# Altium footprint library FQFP (0.5mm Pitch, Square) - Corner Index.PcbLib: 47 footprints (part 2 of 4)
Each footprint in its own frame and in the unit in brackets; x right, y up, seen from the top. Pads: shape width x height; smd on the part's side, far side on the other; paste and mask are expansions set on the pad; w line width, h text height; cw(c..) or ccw(c..) is an arc to the next point about the centre after c.
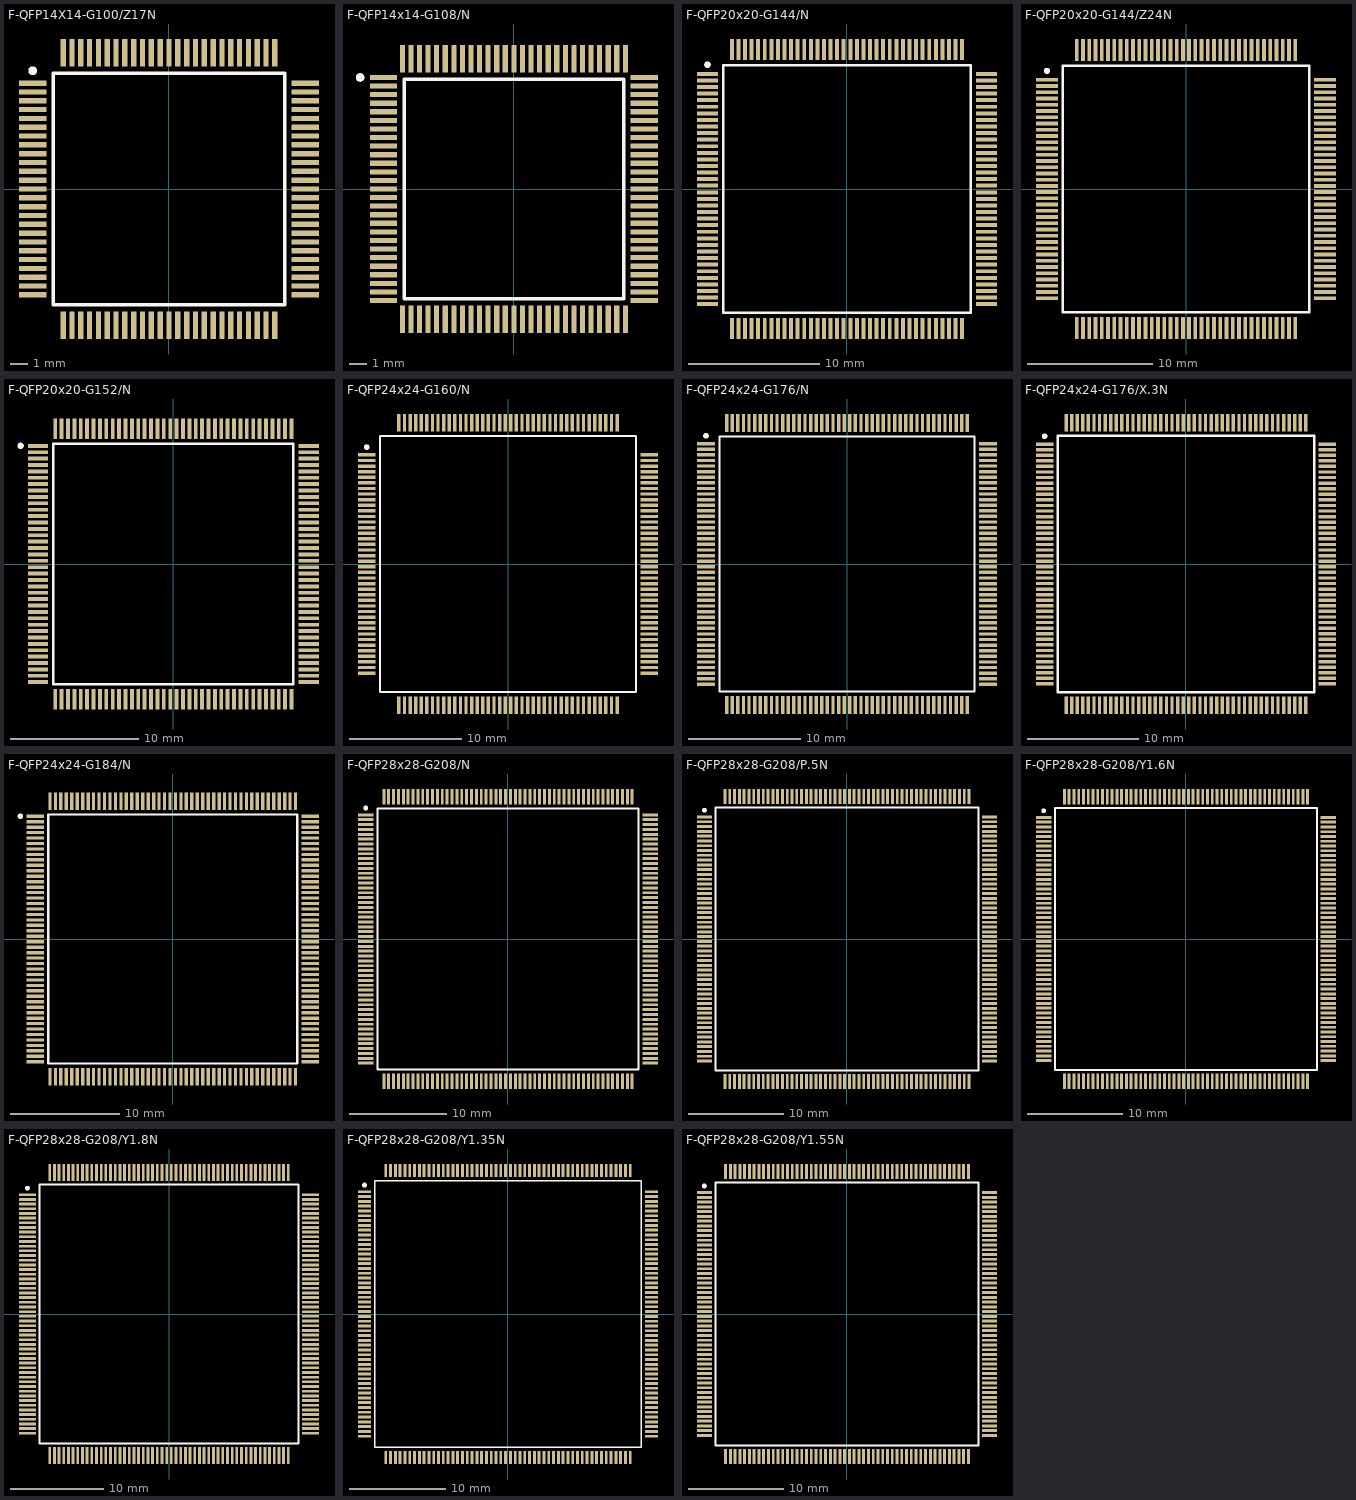
[diagram p1: the footprints below, top view; thin cyan lines are the x and y axes]

## F-QFP14X14-G100/Z17N [mm]
pads (100):
  rect 1.55x0.3 smd: 1(-7.725,6) 2(-7.725,5.5) 3(-7.725,5) 4(-7.725,4.5) 5(-7.725,4) 6(-7.725,3.5) 7(-7.725,3) 8(-7.725,2.5) 9(-7.725,2) 10(-7.725,1.5) 11(-7.725,1) 12(-7.725,0.5) 13(-7.725,0) 14(-7.725,-0.5) 15(-7.725,-1) 16(-7.725,-1.5) 17(-7.725,-2) 18(-7.725,-2.5) 19(-7.725,-3) 20(-7.725,-3.5) 21(-7.725,-4) 22(-7.725,-4.5) 23(-7.725,-5) 24(-7.725,-5.5) 25(-7.725,-6) 51(7.725,-6) 52(7.725,-5.5) 53(7.725,-5) 54(7.725,-4.5) 55(7.725,-4) 56(7.725,-3.5) 57(7.725,-3) 58(7.725,-2.5) 59(7.725,-2) 60(7.725,-1.5) 61(7.725,-1) 62(7.725,-0.5) 63(7.725,0) 64(7.725,0.5) 65(7.725,1) 66(7.725,1.5) 67(7.725,2) 68(7.725,2.5) 69(7.725,3) 70(7.725,3.5) 71(7.725,4) 72(7.725,4.5) 73(7.725,5) 74(7.725,5.5) 75(7.725,6)
  rect 0.3x1.55 smd: 26(-6,-7.725) 27(-5.5,-7.725) 28(-5,-7.725) 29(-4.5,-7.725) 30(-4,-7.725) 31(-3.5,-7.725) 32(-3,-7.725) 33(-2.5,-7.725) 34(-2,-7.725) 35(-1.5,-7.725) 36(-1,-7.725) 37(-0.5,-7.725) 38(0,-7.725) 39(0.5,-7.725) 40(1,-7.725) 41(1.5,-7.725) 42(2,-7.725) 43(2.5,-7.725) 44(3,-7.725) 45(3.5,-7.725) 46(4,-7.725) 47(4.5,-7.725) 48(5,-7.725) 49(5.5,-7.725) 50(6,-7.725) 76(6,7.725) 77(5.5,7.725) 78(5,7.725) 79(4.5,7.725) 80(4,7.725) 81(3.5,7.725) 82(3,7.725) 83(2.5,7.725) 84(2,7.725) 85(1.5,7.725) 86(1,7.725) 87(0.5,7.725) 88(0,7.725) 89(-0.5,7.725) 90(-1,7.725) 91(-1.5,7.725) 92(-2,7.725) 93(-2.5,7.725) 94(-3,7.725) 95(-3.5,7.725) 96(-4,7.725) 97(-4.5,7.725) 98(-5,7.725) 99(-5.5,7.725) 100(-6,7.725)
Top Overlay:
  circle w0.25: c-7.725,6.7 r0.125
  lines w0.2: -6.55,-6.55 6.55,-6.55 6.55,6.55 -6.55,6.55 -6.55,-6.55

## F-QFP14x14-G108/N [mm] "QFP; 108 Leads; Body 14 x 14 mm; Pitch 0.5 mm"
height 2.2
pads (108):
  rect 1.6x0.3 smd: 1(-7.6,6.5) 2(-7.6,6) 3(-7.6,5.5) 4(-7.6,5) 5(-7.6,4.5) 6(-7.6,4) 7(-7.6,3.5) 8(-7.6,3) 9(-7.6,2.5) 10(-7.6,2) 11(-7.6,1.5) 12(-7.6,1) 13(-7.6,0.5) 14(-7.6,0) 15(-7.6,-0.5) 16(-7.6,-1) 17(-7.6,-1.5) 18(-7.6,-2) 19(-7.6,-2.5) 20(-7.6,-3) 21(-7.6,-3.5) 22(-7.6,-4) 23(-7.6,-4.5) 24(-7.6,-5) 25(-7.6,-5.5) 26(-7.6,-6) 27(-7.6,-6.5) 55(7.6,-6.5) 56(7.6,-6) 57(7.6,-5.5) 58(7.6,-5) 59(7.6,-4.5) 60(7.6,-4) 61(7.6,-3.5) 62(7.6,-3) 63(7.6,-2.5) 64(7.6,-2) 65(7.6,-1.5) 66(7.6,-1) 67(7.6,-0.5) 68(7.6,0) 69(7.6,0.5) 70(7.6,1) 71(7.6,1.5) 72(7.6,2) 73(7.6,2.5) 74(7.6,3) 75(7.6,3.5) 76(7.6,4) 77(7.6,4.5) 78(7.6,5) 79(7.6,5.5) 80(7.6,6) 81(7.6,6.5)
  rect 0.3x1.6 smd: 28(-6.5,-7.6) 29(-6,-7.6) 30(-5.5,-7.6) 31(-5,-7.6) 32(-4.5,-7.6) 33(-4,-7.6) 34(-3.5,-7.6) 35(-3,-7.6) 36(-2.5,-7.6) 37(-2,-7.6) 38(-1.5,-7.6) 39(-1,-7.6) 40(-0.5,-7.6) 41(0,-7.6) 42(0.5,-7.6) 43(1,-7.6) 44(1.5,-7.6) 45(2,-7.6) 46(2.5,-7.6) 47(3,-7.6) 48(3.5,-7.6) 49(4,-7.6) 50(4.5,-7.6) 51(5,-7.6) 52(5.5,-7.6) 53(6,-7.6) 54(6.5,-7.6) 82(6.5,7.6) 83(6,7.6) 84(5.5,7.6) 85(5,7.6) 86(4.5,7.6) 87(4,7.6) 88(3.5,7.6) 89(3,7.6) 90(2.5,7.6) 91(2,7.6) 92(1.5,7.6) 93(1,7.6) 94(0.5,7.6) 95(0,7.6) 96(-0.5,7.6) 97(-1,7.6) 98(-1.5,7.6) 99(-2,7.6) 100(-2.5,7.6) 101(-3,7.6) 102(-3.5,7.6) 103(-4,7.6) 104(-4.5,7.6) 105(-5,7.6) 106(-5.5,7.6) 107(-6,7.6) 108(-6.5,7.6)
Top Overlay:
  circle w0.25: c-8.96,6.5 r0.125
  lines w0.2: -6.4,-6.4 -6.4,6.4 6.4,6.4 6.4,-6.4 -6.4,-6.4

## F-QFP20x20-G144/N [mm] "144-Pin Plastic Quad Flat Pack (TQFP)"
height 1.6
pads (144):
  rect 1.6x0.3 smd: 1(-10.6,8.75) 2(-10.6,8.25) 3(-10.6,7.75) 4(-10.6,7.25) 5(-10.6,6.75) 6(-10.6,6.25) 7(-10.6,5.75) 8(-10.6,5.25) 9(-10.6,4.75) 10(-10.6,4.25) 11(-10.6,3.75) 12(-10.6,3.25) 13(-10.6,2.75) 14(-10.6,2.25) 15(-10.6,1.75) 16(-10.6,1.25) 17(-10.6,0.75) 18(-10.6,0.25) 19(-10.6,-0.25) 20(-10.6,-0.75) 21(-10.6,-1.25) 22(-10.6,-1.75) 23(-10.6,-2.25) 24(-10.6,-2.75) 25(-10.6,-3.25) 26(-10.6,-3.75) 27(-10.6,-4.25) 28(-10.6,-4.75) 29(-10.6,-5.25) 30(-10.6,-5.75) 31(-10.6,-6.25) 32(-10.6,-6.75) 33(-10.6,-7.25) 34(-10.6,-7.75) 35(-10.6,-8.25) 36(-10.6,-8.75) 73(10.6,-8.75) 74(10.6,-8.25) 75(10.6,-7.75) 76(10.6,-7.25) 77(10.6,-6.75) 78(10.6,-6.25) 79(10.6,-5.75) 80(10.6,-5.25) 81(10.6,-4.75) 82(10.6,-4.25) 83(10.6,-3.75) 84(10.6,-3.25) 85(10.6,-2.75) 86(10.6,-2.25) 87(10.6,-1.75) 88(10.6,-1.25) 89(10.6,-0.75) 90(10.6,-0.25) 91(10.6,0.25) 92(10.6,0.75) 93(10.6,1.25) 94(10.6,1.75) 95(10.6,2.25) 96(10.6,2.75) 97(10.6,3.25) 98(10.6,3.75) 99(10.6,4.25) 100(10.6,4.75) 101(10.6,5.25) 102(10.6,5.75) 103(10.6,6.25) 104(10.6,6.75) 105(10.6,7.25) 106(10.6,7.75) 107(10.6,8.25) 108(10.6,8.75)
  rect 0.3x1.6 smd: 37(-8.75,-10.6) 38(-8.25,-10.6) 39(-7.75,-10.6) 40(-7.25,-10.6) 41(-6.75,-10.6) 42(-6.25,-10.6) 43(-5.75,-10.6) 44(-5.25,-10.6) 45(-4.75,-10.6) 46(-4.25,-10.6) 47(-3.75,-10.6) 48(-3.25,-10.6) 49(-2.75,-10.6) 50(-2.25,-10.6) 51(-1.75,-10.6) 52(-1.25,-10.6) 53(-0.75,-10.6) 54(-0.25,-10.6) 55(0.25,-10.6) 56(0.75,-10.6) 57(1.25,-10.6) 58(1.75,-10.6) 59(2.25,-10.6) 60(2.75,-10.6) 61(3.25,-10.6) 62(3.75,-10.6) 63(4.25,-10.6) 64(4.75,-10.6) 65(5.25,-10.6) 66(5.75,-10.6) 67(6.25,-10.6) 68(6.75,-10.6) 69(7.25,-10.6) 70(7.75,-10.6) 71(8.25,-10.6) 72(8.75,-10.6) 109(8.75,10.6) 110(8.25,10.6) 111(7.75,10.6) 112(7.25,10.6) 113(6.75,10.6) 114(6.25,10.6) 115(5.75,10.6) 116(5.25,10.6) 117(4.75,10.6) 118(4.25,10.6) 119(3.75,10.6) 120(3.25,10.6) 121(2.75,10.6) 122(2.25,10.6) 123(1.75,10.6) 124(1.25,10.6) 125(0.75,10.6) 126(0.25,10.6) 127(-0.25,10.6) 128(-0.75,10.6) 129(-1.25,10.6) 130(-1.75,10.6) 131(-2.25,10.6) 132(-2.75,10.6) 133(-3.25,10.6) 134(-3.75,10.6) 135(-4.25,10.6) 136(-4.75,10.6) 137(-5.25,10.6) 138(-5.75,10.6) 139(-6.25,10.6) 140(-6.75,10.6) 141(-7.25,10.6) 142(-7.75,10.6) 143(-8.25,10.6) 144(-8.75,10.6)
Top Overlay:
  circle w0.25: c-10.6,9.45 r0.125
  lines w0.2: -9.4,-9.4 -9.4,9.4 9.4,9.4 9.4,-9.4 -9.4,-9.4

## F-QFP20x20-G144/Z24N [mm] "QFP; 144 Leads; Body 20 x 20 mm; Pitch 0.5 mm"
height 3
pads (144):
  rect 1.75x0.3 smd: 1(-11.125,8.75) 2(-11.125,8.25) 3(-11.125,7.75) 4(-11.125,7.25) 5(-11.125,6.75) 6(-11.125,6.25) 7(-11.125,5.75) 8(-11.125,5.25) 9(-11.125,4.75) 10(-11.125,4.25) 11(-11.125,3.75) 12(-11.125,3.25) 13(-11.125,2.75) 14(-11.125,2.25) 15(-11.125,1.75) 16(-11.125,1.25) 17(-11.125,0.75) 18(-11.125,0.25) 19(-11.125,-0.25) 20(-11.125,-0.75) 21(-11.125,-1.25) 22(-11.125,-1.75) 23(-11.125,-2.25) 24(-11.125,-2.75) 25(-11.125,-3.25) 26(-11.125,-3.75) 27(-11.125,-4.25) 28(-11.125,-4.75) 29(-11.125,-5.25) 30(-11.125,-5.75) 31(-11.125,-6.25) 32(-11.125,-6.75) 33(-11.125,-7.25) 34(-11.125,-7.75) 35(-11.125,-8.25) 36(-11.125,-8.75) 73(11.125,-8.75) 74(11.125,-8.25) 75(11.125,-7.75) 76(11.125,-7.25) 77(11.125,-6.75) 78(11.125,-6.25) 79(11.125,-5.75) 80(11.125,-5.25) 81(11.125,-4.75) 82(11.125,-4.25) 83(11.125,-3.75) 84(11.125,-3.25) 85(11.125,-2.75) 86(11.125,-2.25) 87(11.125,-1.75) 88(11.125,-1.25) 89(11.125,-0.75) 90(11.125,-0.25) 91(11.125,0.25) 92(11.125,0.75) 93(11.125,1.25) 94(11.125,1.75) 95(11.125,2.25) 96(11.125,2.75) 97(11.125,3.25) 98(11.125,3.75) 99(11.125,4.25) 100(11.125,4.75) 101(11.125,5.25) 102(11.125,5.75) 103(11.125,6.25) 104(11.125,6.75) 105(11.125,7.25) 106(11.125,7.75) 107(11.125,8.25) 108(11.125,8.75)
  rect 0.3x1.75 smd: 37(-8.75,-11.125) 38(-8.25,-11.125) 39(-7.75,-11.125) 40(-7.25,-11.125) 41(-6.75,-11.125) 42(-6.25,-11.125) 43(-5.75,-11.125) 44(-5.25,-11.125) 45(-4.75,-11.125) 46(-4.25,-11.125) 47(-3.75,-11.125) 48(-3.25,-11.125) 49(-2.75,-11.125) 50(-2.25,-11.125) 51(-1.75,-11.125) 52(-1.25,-11.125) 53(-0.75,-11.125) 54(-0.25,-11.125) 55(0.25,-11.125) 56(0.75,-11.125) 57(1.25,-11.125) 58(1.75,-11.125) 59(2.25,-11.125) 60(2.75,-11.125) 61(3.25,-11.125) 62(3.75,-11.125) 63(4.25,-11.125) 64(4.75,-11.125) 65(5.25,-11.125) 66(5.75,-11.125) 67(6.25,-11.125) 68(6.75,-11.125) 69(7.25,-11.125) 70(7.75,-11.125) 71(8.25,-11.125) 72(8.75,-11.125) 109(8.75,11.125) 110(8.25,11.125) 111(7.75,11.125) 112(7.25,11.125) 113(6.75,11.125) 114(6.25,11.125) 115(5.75,11.125) 116(5.25,11.125) 117(4.75,11.125) 118(4.25,11.125) 119(3.75,11.125) 120(3.25,11.125) 121(2.75,11.125) 122(2.25,11.125) 123(1.75,11.125) 124(1.25,11.125) 125(0.75,11.125) 126(0.25,11.125) 127(-0.25,11.125) 128(-0.75,11.125) 129(-1.25,11.125) 130(-1.75,11.125) 131(-2.25,11.125) 132(-2.75,11.125) 133(-3.25,11.125) 134(-3.75,11.125) 135(-4.25,11.125) 136(-4.75,11.125) 137(-5.25,11.125) 138(-5.75,11.125) 139(-6.25,11.125) 140(-6.75,11.125) 141(-7.25,11.125) 142(-7.75,11.125) 143(-8.25,11.125) 144(-8.75,11.125)
Top Overlay:
  circle w0.25: c-11.13,9.45 r0.125
  lines w0.2: -9.85,-9.85 9.85,-9.85 9.85,9.85 -9.85,9.85 -9.85,-9.85

## F-QFP20x20-G152/N [mm] "QFP; 152 Leads; Body 20 x 20 mm; Pitch 0.5 mm"
height 2.7
pads (152):
  rect 1.6x0.3 smd: 1(-10.6,9.25) 2(-10.6,8.75) 3(-10.6,8.25) 4(-10.6,7.75) 5(-10.6,7.25) 6(-10.6,6.75) 7(-10.6,6.25) 8(-10.6,5.75) 9(-10.6,5.25) 10(-10.6,4.75) 11(-10.6,4.25) 12(-10.6,3.75) 13(-10.6,3.25) 14(-10.6,2.75) 15(-10.6,2.25) 16(-10.6,1.75) 17(-10.6,1.25) 18(-10.6,0.75) 19(-10.6,0.25) 20(-10.6,-0.25) 21(-10.6,-0.75) 22(-10.6,-1.25) 23(-10.6,-1.75) 24(-10.6,-2.25) 25(-10.6,-2.75) 26(-10.6,-3.25) 27(-10.6,-3.75) 28(-10.6,-4.25) 29(-10.6,-4.75) 30(-10.6,-5.25) 31(-10.6,-5.75) 32(-10.6,-6.25) 33(-10.6,-6.75) 34(-10.6,-7.25) 35(-10.6,-7.75) 36(-10.6,-8.25) 37(-10.6,-8.75) 38(-10.6,-9.25) 77(10.6,-9.25) 78(10.6,-8.75) 79(10.6,-8.25) 80(10.6,-7.75) 81(10.6,-7.25) 82(10.6,-6.75) 83(10.6,-6.25) 84(10.6,-5.75) 85(10.6,-5.25) 86(10.6,-4.75) 87(10.6,-4.25) 88(10.6,-3.75) 89(10.6,-3.25) 90(10.6,-2.75) 91(10.6,-2.25) 92(10.6,-1.75) 93(10.6,-1.25) 94(10.6,-0.75) 95(10.6,-0.25) 96(10.6,0.25) 97(10.6,0.75) 98(10.6,1.25) 99(10.6,1.75) 100(10.6,2.25) 101(10.6,2.75) 102(10.6,3.25) 103(10.6,3.75) 104(10.6,4.25) 105(10.6,4.75) 106(10.6,5.25) 107(10.6,5.75) 108(10.6,6.25) 109(10.6,6.75) 110(10.6,7.25) 111(10.6,7.75) 112(10.6,8.25) 113(10.6,8.75) 114(10.6,9.25)
  rect 0.3x1.6 smd: 39(-9.25,-10.6) 40(-8.75,-10.6) 41(-8.25,-10.6) 42(-7.75,-10.6) 43(-7.25,-10.6) 44(-6.75,-10.6) 45(-6.25,-10.6) 46(-5.75,-10.6) 47(-5.25,-10.6) 48(-4.75,-10.6) 49(-4.25,-10.6) 50(-3.75,-10.6) 51(-3.25,-10.6) 52(-2.75,-10.6) 53(-2.25,-10.6) 54(-1.75,-10.6) 55(-1.25,-10.6) 56(-0.75,-10.6) 57(-0.25,-10.6) 58(0.25,-10.6) 59(0.75,-10.6) 60(1.25,-10.6) 61(1.75,-10.6) 62(2.25,-10.6) 63(2.75,-10.6) 64(3.25,-10.6) 65(3.75,-10.6) 66(4.25,-10.6) 67(4.75,-10.6) 68(5.25,-10.6) 69(5.75,-10.6) 70(6.25,-10.6) 71(6.75,-10.6) 72(7.25,-10.6) 73(7.75,-10.6) 74(8.25,-10.6) 75(8.75,-10.6) 76(9.25,-10.6) 115(9.25,10.6) 116(8.75,10.6) 117(8.25,10.6) 118(7.75,10.6) 119(7.25,10.6) 120(6.75,10.6) 121(6.25,10.6) 122(5.75,10.6) 123(5.25,10.6) 124(4.75,10.6) 125(4.25,10.6) 126(3.75,10.6) 127(3.25,10.6) 128(2.75,10.6) 129(2.25,10.6) 130(1.75,10.6) 131(1.25,10.6) 132(0.75,10.6) 133(0.25,10.6) 134(-0.25,10.6) 135(-0.75,10.6) 136(-1.25,10.6) 137(-1.75,10.6) 138(-2.25,10.6) 139(-2.75,10.6) 140(-3.25,10.6) 141(-3.75,10.6) 142(-4.25,10.6) 143(-4.75,10.6) 144(-5.25,10.6) 145(-5.75,10.6) 146(-6.25,10.6) 147(-6.75,10.6) 148(-7.25,10.6) 149(-7.75,10.6) 150(-8.25,10.6) 151(-8.75,10.6) 152(-9.25,10.6)
Top Overlay:
  circle w0.25: c-11.96,9.25 r0.125
  lines w0.2: -9.4,-9.4 9.4,-9.4 9.4,9.4 -9.4,9.4 -9.4,-9.4

## F-QFP24x24-G160/N [mm] "QFP; 160 Leads; Body 24 x 24 mm; Pitch 0.5 mm"
height 1.6
pads (160):
  rect 1.55x0.3 smd: 1(-12.63,9.75) 2(-12.63,9.25) 3(-12.63,8.75) 4(-12.63,8.25) 5(-12.63,7.75) 6(-12.63,7.25) 7(-12.63,6.75) 8(-12.63,6.25) 9(-12.63,5.75) 10(-12.63,5.25) 11(-12.63,4.75) 12(-12.63,4.25) 13(-12.63,3.75) 14(-12.63,3.25) 15(-12.63,2.75) 16(-12.63,2.25) 17(-12.63,1.75) 18(-12.63,1.25) 19(-12.63,0.75) 20(-12.63,0.25) 21(-12.63,-0.25) 22(-12.63,-0.75) 23(-12.63,-1.25) 24(-12.63,-1.75) 25(-12.63,-2.25) 26(-12.63,-2.75) 27(-12.63,-3.25) 28(-12.63,-3.75) 29(-12.63,-4.25) 30(-12.63,-4.75) 31(-12.63,-5.25) 32(-12.63,-5.75) 33(-12.63,-6.25) 34(-12.63,-6.75) 35(-12.63,-7.25) 36(-12.63,-7.75) 37(-12.63,-8.25) 38(-12.63,-8.75) 39(-12.63,-9.25) 40(-12.63,-9.75) 81(12.63,-9.75) 82(12.63,-9.25) 83(12.63,-8.75) 84(12.63,-8.25) 85(12.63,-7.75) 86(12.63,-7.25) 87(12.63,-6.75) 88(12.63,-6.25) 89(12.63,-5.75) 90(12.63,-5.25) 91(12.63,-4.75) 92(12.63,-4.25) 93(12.63,-3.75) 94(12.63,-3.25) 95(12.63,-2.75) 96(12.63,-2.25) 97(12.63,-1.75) 98(12.63,-1.25) 99(12.63,-0.75) 100(12.63,-0.25) 101(12.63,0.25) 102(12.63,0.75) 103(12.63,1.25) 104(12.63,1.75) 105(12.63,2.25) 106(12.63,2.75) 107(12.63,3.25) 108(12.63,3.75) 109(12.63,4.25) 110(12.63,4.75) 111(12.63,5.25) 112(12.63,5.75) 113(12.63,6.25) 114(12.63,6.75) 115(12.63,7.25) 116(12.63,7.75) 117(12.63,8.25) 118(12.63,8.75) 119(12.63,9.25) 120(12.63,9.75)
  rect 0.3x1.55 smd: 41(-9.75,-12.63) 42(-9.25,-12.63) 43(-8.75,-12.63) 44(-8.25,-12.63) 45(-7.75,-12.63) 46(-7.25,-12.63) 47(-6.75,-12.63) 48(-6.25,-12.63) 49(-5.75,-12.63) 50(-5.25,-12.63) 51(-4.75,-12.63) 52(-4.25,-12.63) 53(-3.75,-12.63) 54(-3.25,-12.63) 55(-2.75,-12.63) 56(-2.25,-12.63) 57(-1.75,-12.63) 58(-1.25,-12.63) 59(-0.75,-12.63) 60(-0.25,-12.63) 61(0.25,-12.63) 62(0.75,-12.63) 63(1.25,-12.63) 64(1.75,-12.63) 65(2.25,-12.63) 66(2.75,-12.63) 67(3.25,-12.63) 68(3.75,-12.63) 69(4.25,-12.63) 70(4.75,-12.63) 71(5.25,-12.63) 72(5.75,-12.63) 73(6.25,-12.63) 74(6.75,-12.63) 75(7.25,-12.63) 76(7.75,-12.63) 77(8.25,-12.63) 78(8.75,-12.63) 79(9.25,-12.63) 80(9.75,-12.63) 121(9.75,12.63) 122(9.25,12.63) 123(8.75,12.63) 124(8.25,12.63) 125(7.75,12.63) 126(7.25,12.63) 127(6.75,12.63) 128(6.25,12.63) 129(5.75,12.63) 130(5.25,12.63) 131(4.75,12.63) 132(4.25,12.63) 133(3.75,12.63) 134(3.25,12.63) 135(2.75,12.63) 136(2.25,12.63) 137(1.75,12.63) 138(1.25,12.63) 139(0.75,12.63) 140(0.25,12.63) 141(-0.25,12.63) 142(-0.75,12.63) 143(-1.25,12.63) 144(-1.75,12.63) 145(-2.25,12.63) 146(-2.75,12.63) 147(-3.25,12.63) 148(-3.75,12.63) 149(-4.25,12.63) 150(-4.75,12.63) 151(-5.25,12.63) 152(-5.75,12.63) 153(-6.25,12.63) 154(-6.75,12.63) 155(-7.25,12.63) 156(-7.75,12.63) 157(-8.25,12.63) 158(-8.75,12.63) 159(-9.25,12.63) 160(-9.75,12.63)
Top Overlay:
  circle w0.25: c-12.63,10.45 r0.125
  lines w0.2: -11.45,-11.45 -11.45,11.45 11.45,11.45 11.45,-11.45 -11.45,-11.45

## F-QFP24x24-G176/N [mm] "176-Pin Plastic Quad Flat Pack (TQFP)"
height 1.6
pads (176):
  rect 1.6x0.3 smd: 1(-12.6,10.75) 2(-12.6,10.25) 3(-12.6,9.75) 4(-12.6,9.25) 5(-12.6,8.75) 6(-12.6,8.25) 7(-12.6,7.75) 8(-12.6,7.25) 9(-12.6,6.75) 10(-12.6,6.25) 11(-12.6,5.75) 12(-12.6,5.25) 13(-12.6,4.75) 14(-12.6,4.25) 15(-12.6,3.75) 16(-12.6,3.25) 17(-12.6,2.75) 18(-12.6,2.25) 19(-12.6,1.75) 20(-12.6,1.25) 21(-12.6,0.75) 22(-12.6,0.25) 23(-12.6,-0.25) 24(-12.6,-0.75) 25(-12.6,-1.25) 26(-12.6,-1.75) 27(-12.6,-2.25) 28(-12.6,-2.75) 29(-12.6,-3.25) 30(-12.6,-3.75) 31(-12.6,-4.25) 32(-12.6,-4.75) 33(-12.6,-5.25) 34(-12.6,-5.75) 35(-12.6,-6.25) 36(-12.6,-6.75) 37(-12.6,-7.25) 38(-12.6,-7.75) 39(-12.6,-8.25) 40(-12.6,-8.75) 41(-12.6,-9.25) 42(-12.6,-9.75) 43(-12.6,-10.25) 44(-12.6,-10.75) 89(12.6,-10.75) 90(12.6,-10.25) 91(12.6,-9.75) 92(12.6,-9.25) 93(12.6,-8.75) 94(12.6,-8.25) 95(12.6,-7.75) 96(12.6,-7.25) 97(12.6,-6.75) 98(12.6,-6.25) 99(12.6,-5.75) 100(12.6,-5.25) 101(12.6,-4.75) 102(12.6,-4.25) 103(12.6,-3.75) 104(12.6,-3.25) 105(12.6,-2.75) 106(12.6,-2.25) 107(12.6,-1.75) 108(12.6,-1.25) 109(12.6,-0.75) 110(12.6,-0.25) 111(12.6,0.25) 112(12.6,0.75) 113(12.6,1.25) 114(12.6,1.75) 115(12.6,2.25) 116(12.6,2.75) 117(12.6,3.25) 118(12.6,3.75) 119(12.6,4.25) 120(12.6,4.75) 121(12.6,5.25) 122(12.6,5.75) 123(12.6,6.25) 124(12.6,6.75) 125(12.6,7.25) 126(12.6,7.75) 127(12.6,8.25) 128(12.6,8.75) 129(12.6,9.25) 130(12.6,9.75) 131(12.6,10.25) 132(12.6,10.75)
  rect 0.3x1.6 smd: 45(-10.75,-12.6) 46(-10.25,-12.6) 47(-9.75,-12.6) 48(-9.25,-12.6) 49(-8.75,-12.6) 50(-8.25,-12.6) 51(-7.75,-12.6) 52(-7.25,-12.6) 53(-6.75,-12.6) 54(-6.25,-12.6) 55(-5.75,-12.6) 56(-5.25,-12.6) 57(-4.75,-12.6) 58(-4.25,-12.6) 59(-3.75,-12.6) 60(-3.25,-12.6) 61(-2.75,-12.6) 62(-2.25,-12.6) 63(-1.75,-12.6) 64(-1.25,-12.6) 65(-0.75,-12.6) 66(-0.25,-12.6) 67(0.25,-12.6) 68(0.75,-12.6) 69(1.25,-12.6) 70(1.75,-12.6) 71(2.25,-12.6) 72(2.75,-12.6) 73(3.25,-12.6) 74(3.75,-12.6) 75(4.25,-12.6) 76(4.75,-12.6) 77(5.25,-12.6) 78(5.75,-12.6) 79(6.25,-12.6) 80(6.75,-12.6) 81(7.25,-12.6) 82(7.75,-12.6) 83(8.25,-12.6) 84(8.75,-12.6) 85(9.25,-12.6) 86(9.75,-12.6) 87(10.25,-12.6) 88(10.75,-12.6) 133(10.75,12.6) 134(10.25,12.6) 135(9.75,12.6) 136(9.25,12.6) 137(8.75,12.6) 138(8.25,12.6) 139(7.75,12.6) 140(7.25,12.6) 141(6.75,12.6) 142(6.25,12.6) 143(5.75,12.6) 144(5.25,12.6) 145(4.75,12.6) 146(4.25,12.6) 147(3.75,12.6) 148(3.25,12.6) 149(2.75,12.6) 150(2.25,12.6) 151(1.75,12.6) 152(1.25,12.6) 153(0.75,12.6) 154(0.25,12.6) 155(-0.25,12.6) 156(-0.75,12.6) 157(-1.25,12.6) 158(-1.75,12.6) 159(-2.25,12.6) 160(-2.75,12.6) 161(-3.25,12.6) 162(-3.75,12.6) 163(-4.25,12.6) 164(-4.75,12.6) 165(-5.25,12.6) 166(-5.75,12.6) 167(-6.25,12.6) 168(-6.75,12.6) 169(-7.25,12.6) 170(-7.75,12.6) 171(-8.25,12.6) 172(-8.75,12.6) 173(-9.25,12.6) 174(-9.75,12.6) 175(-10.25,12.6) 176(-10.75,12.6)
Top Overlay:
  circle w0.25: c-12.6,11.45 r0.125
  lines w0.2: -11.4,-11.4 -11.4,11.4 11.4,11.4 11.4,-11.4 -11.4,-11.4

## F-QFP24x24-G176/X.3N [mm] "176-Pin Heat Sink Thin Quad Flat Pack (HT176)"
height 1.6
pads (176):
  rect 1.55x0.3 smd: 1(-12.675,10.75) 2(-12.675,10.25) 3(-12.675,9.75) 4(-12.675,9.25) 5(-12.675,8.75) 6(-12.675,8.25) 7(-12.675,7.75) 8(-12.675,7.25) 9(-12.675,6.75) 10(-12.675,6.25) 11(-12.675,5.75) 12(-12.675,5.25) 13(-12.675,4.75) 14(-12.675,4.25) 15(-12.675,3.75) 16(-12.675,3.25) 17(-12.675,2.75) 18(-12.675,2.25) 19(-12.675,1.75) 20(-12.675,1.25) 21(-12.675,0.75) 22(-12.675,0.25) 23(-12.675,-0.25) 24(-12.675,-0.75) 25(-12.675,-1.25) 26(-12.675,-1.75) 27(-12.675,-2.25) 28(-12.675,-2.75) 29(-12.675,-3.25) 30(-12.675,-3.75) 31(-12.675,-4.25) 32(-12.675,-4.75) 33(-12.675,-5.25) 34(-12.675,-5.75) 35(-12.675,-6.25) 36(-12.675,-6.75) 37(-12.675,-7.25) 38(-12.675,-7.75) 39(-12.675,-8.25) 40(-12.675,-8.75) 41(-12.675,-9.25) 42(-12.675,-9.75) 43(-12.675,-10.25) 44(-12.675,-10.75) 89(12.675,-10.75) 90(12.675,-10.25) 91(12.675,-9.75) 92(12.675,-9.25) 93(12.675,-8.75) 94(12.675,-8.25) 95(12.675,-7.75) 96(12.675,-7.25) 97(12.675,-6.75) 98(12.675,-6.25) 99(12.675,-5.75) 100(12.675,-5.25) 101(12.675,-4.75) 102(12.675,-4.25) 103(12.675,-3.75) 104(12.675,-3.25) 105(12.675,-2.75) 106(12.675,-2.25) 107(12.675,-1.75) 108(12.675,-1.25) 109(12.675,-0.75) 110(12.675,-0.25) 111(12.675,0.25) 112(12.675,0.75) 113(12.675,1.25) 114(12.675,1.75) 115(12.675,2.25) 116(12.675,2.75) 117(12.675,3.25) 118(12.675,3.75) 119(12.675,4.25) 120(12.675,4.75) 121(12.675,5.25) 122(12.675,5.75) 123(12.675,6.25) 124(12.675,6.75) 125(12.675,7.25) 126(12.675,7.75) 127(12.675,8.25) 128(12.675,8.75) 129(12.675,9.25) 130(12.675,9.75) 131(12.675,10.25) 132(12.675,10.75)
  rect 0.3x1.55 smd: 45(-10.75,-12.675) 46(-10.25,-12.675) 47(-9.75,-12.675) 48(-9.25,-12.675) 49(-8.75,-12.675) 50(-8.25,-12.675) 51(-7.75,-12.675) 52(-7.25,-12.675) 53(-6.75,-12.675) 54(-6.25,-12.675) 55(-5.75,-12.675) 56(-5.25,-12.675) 57(-4.75,-12.675) 58(-4.25,-12.675) 59(-3.75,-12.675) 60(-3.25,-12.675) 61(-2.75,-12.675) 62(-2.25,-12.675) 63(-1.75,-12.675) 64(-1.25,-12.675) 65(-0.75,-12.675) 66(-0.25,-12.675) 67(0.25,-12.675) 68(0.75,-12.675) 69(1.25,-12.675) 70(1.75,-12.675) 71(2.25,-12.675) 72(2.75,-12.675) 73(3.25,-12.675) 74(3.75,-12.675) 75(4.25,-12.675) 76(4.75,-12.675) 77(5.25,-12.675) 78(5.75,-12.675) 79(6.25,-12.675) 80(6.75,-12.675) 81(7.25,-12.675) 82(7.75,-12.675) 83(8.25,-12.675) 84(8.75,-12.675) 85(9.25,-12.675) 86(9.75,-12.675) 87(10.25,-12.675) 88(10.75,-12.675) 133(10.75,12.675) 134(10.25,12.675) 135(9.75,12.675) 136(9.25,12.675) 137(8.75,12.675) 138(8.25,12.675) 139(7.75,12.675) 140(7.25,12.675) 141(6.75,12.675) 142(6.25,12.675) 143(5.75,12.675) 144(5.25,12.675) 145(4.75,12.675) 146(4.25,12.675) 147(3.75,12.675) 148(3.25,12.675) 149(2.75,12.675) 150(2.25,12.675) 151(1.75,12.675) 152(1.25,12.675) 153(0.75,12.675) 154(0.25,12.675) 155(-0.25,12.675) 156(-0.75,12.675) 157(-1.25,12.675) 158(-1.75,12.675) 159(-2.25,12.675) 160(-2.75,12.675) 161(-3.25,12.675) 162(-3.75,12.675) 163(-4.25,12.675) 164(-4.75,12.675) 165(-5.25,12.675) 166(-5.75,12.675) 167(-6.25,12.675) 168(-6.75,12.675) 169(-7.25,12.675) 170(-7.75,12.675) 171(-8.25,12.675) 172(-8.75,12.675) 173(-9.25,12.675) 174(-9.75,12.675) 175(-10.25,12.675) 176(-10.75,12.675)
Top Overlay:
  circle w0.25: c-12.675,11.45 r0.125
  lines w0.2: -11.5,-11.5 -11.5,11.5 11.5,11.5 11.5,-11.5 -11.5,-11.5

## F-QFP24x24-G184/N [mm] "QFP; 184 Leads; Body 24 x 24 mm; Pitch 0.5 mm"
height 3.2
pads (184):
  rect 1.6x0.3 smd: 1(-12.6,11.25) 2(-12.6,10.75) 3(-12.6,10.25) 4(-12.6,9.75) 5(-12.6,9.25) 6(-12.6,8.75) 7(-12.6,8.25) 8(-12.6,7.75) 9(-12.6,7.25) 10(-12.6,6.75) 11(-12.6,6.25) 12(-12.6,5.75) 13(-12.6,5.25) 14(-12.6,4.75) 15(-12.6,4.25) 16(-12.6,3.75) 17(-12.6,3.25) 18(-12.6,2.75) 19(-12.6,2.25) 20(-12.6,1.75) 21(-12.6,1.25) 22(-12.6,0.75) 23(-12.6,0.25) 24(-12.6,-0.25) 25(-12.6,-0.75) 26(-12.6,-1.25) 27(-12.6,-1.75) 28(-12.6,-2.25) 29(-12.6,-2.75) 30(-12.6,-3.25) 31(-12.6,-3.75) 32(-12.6,-4.25) 33(-12.6,-4.75) 34(-12.6,-5.25) 35(-12.6,-5.75) 36(-12.6,-6.25) 37(-12.6,-6.75) 38(-12.6,-7.25) 39(-12.6,-7.75) 40(-12.6,-8.25) 41(-12.6,-8.75) 42(-12.6,-9.25) 43(-12.6,-9.75) 44(-12.6,-10.25) 45(-12.6,-10.75) 46(-12.6,-11.25) 93(12.6,-11.25) 94(12.6,-10.75) 95(12.6,-10.25) 96(12.6,-9.75) 97(12.6,-9.25) 98(12.6,-8.75) 99(12.6,-8.25) 100(12.6,-7.75) 101(12.6,-7.25) 102(12.6,-6.75) 103(12.6,-6.25) 104(12.6,-5.75) 105(12.6,-5.25) 106(12.6,-4.75) 107(12.6,-4.25) 108(12.6,-3.75) 109(12.6,-3.25) 110(12.6,-2.75) 111(12.6,-2.25) 112(12.6,-1.75) 113(12.6,-1.25) 114(12.6,-0.75) 115(12.6,-0.25) 116(12.6,0.25) 117(12.6,0.75) 118(12.6,1.25) 119(12.6,1.75) 120(12.6,2.25) 121(12.6,2.75) 122(12.6,3.25) 123(12.6,3.75) 124(12.6,4.25) 125(12.6,4.75) 126(12.6,5.25) 127(12.6,5.75) 128(12.6,6.25) 129(12.6,6.75) 130(12.6,7.25) 131(12.6,7.75) 132(12.6,8.25) 133(12.6,8.75) 134(12.6,9.25) 135(12.6,9.75) 136(12.6,10.25) 137(12.6,10.75) 138(12.6,11.25)
  rect 0.3x1.6 smd: 47(-11.25,-12.6) 48(-10.75,-12.6) 49(-10.25,-12.6) 50(-9.75,-12.6) 51(-9.25,-12.6) 52(-8.75,-12.6) 53(-8.25,-12.6) 54(-7.75,-12.6) 55(-7.25,-12.6) 56(-6.75,-12.6) 57(-6.25,-12.6) 58(-5.75,-12.6) 59(-5.25,-12.6) 60(-4.75,-12.6) 61(-4.25,-12.6) 62(-3.75,-12.6) 63(-3.25,-12.6) 64(-2.75,-12.6) 65(-2.25,-12.6) 66(-1.75,-12.6) 67(-1.25,-12.6) 68(-0.75,-12.6) 69(-0.25,-12.6) 70(0.25,-12.6) 71(0.75,-12.6) 72(1.25,-12.6) 73(1.75,-12.6) 74(2.25,-12.6) 75(2.75,-12.6) 76(3.25,-12.6) 77(3.75,-12.6) 78(4.25,-12.6) 79(4.75,-12.6) 80(5.25,-12.6) 81(5.75,-12.6) 82(6.25,-12.6) 83(6.75,-12.6) 84(7.25,-12.6) 85(7.75,-12.6) 86(8.25,-12.6) 87(8.75,-12.6) 88(9.25,-12.6) 89(9.75,-12.6) 90(10.25,-12.6) 91(10.75,-12.6) 92(11.25,-12.6) 139(11.25,12.6) 140(10.75,12.6) 141(10.25,12.6) 142(9.75,12.6) 143(9.25,12.6) 144(8.75,12.6) 145(8.25,12.6) 146(7.75,12.6) 147(7.25,12.6) 148(6.75,12.6) 149(6.25,12.6) 150(5.75,12.6) 151(5.25,12.6) 152(4.75,12.6) 153(4.25,12.6) 154(3.75,12.6) 155(3.25,12.6) 156(2.75,12.6) 157(2.25,12.6) 158(1.75,12.6) 159(1.25,12.6) 160(0.75,12.6) 161(0.25,12.6) 162(-0.25,12.6) 163(-0.75,12.6) 164(-1.25,12.6) 165(-1.75,12.6) 166(-2.25,12.6) 167(-2.75,12.6) 168(-3.25,12.6) 169(-3.75,12.6) 170(-4.25,12.6) 171(-4.75,12.6) 172(-5.25,12.6) 173(-5.75,12.6) 174(-6.25,12.6) 175(-6.75,12.6) 176(-7.25,12.6) 177(-7.75,12.6) 178(-8.25,12.6) 179(-8.75,12.6) 180(-9.25,12.6) 181(-9.75,12.6) 182(-10.25,12.6) 183(-10.75,12.6) 184(-11.25,12.6)
Top Overlay:
  circle w0.25: c-13.96,11.25 r0.125
  lines w0.2: -11.4,-11.4 11.4,-11.4 11.4,11.4 -11.4,11.4 -11.4,-11.4

## F-QFP28x28-G208/N [mm] "QFP; 208 Leads; Body 28 x 28 mm; Pitch 0.5 mm"
height 3.75
pads (208):
  rect 1.6x0.3 smd: 1(-14.6,12.75) 2(-14.6,12.25) 3(-14.6,11.75) 4(-14.6,11.25) 5(-14.6,10.75) 6(-14.6,10.25) 7(-14.6,9.75) 8(-14.6,9.25) 9(-14.6,8.75) 10(-14.6,8.25) 11(-14.6,7.75) 12(-14.6,7.25) 13(-14.6,6.75) 14(-14.6,6.25) 15(-14.6,5.75) 16(-14.6,5.25) 17(-14.6,4.75) 18(-14.6,4.25) 19(-14.6,3.75) 20(-14.6,3.25) 21(-14.6,2.75) 22(-14.6,2.25) 23(-14.6,1.75) 24(-14.6,1.25) 25(-14.6,0.75) 26(-14.6,0.25) 27(-14.6,-0.25) 28(-14.6,-0.75) 29(-14.6,-1.25) 30(-14.6,-1.75) 31(-14.6,-2.25) 32(-14.6,-2.75) 33(-14.6,-3.25) 34(-14.6,-3.75) 35(-14.6,-4.25) 36(-14.6,-4.75) 37(-14.6,-5.25) 38(-14.6,-5.75) 39(-14.6,-6.25) 40(-14.6,-6.75) 41(-14.6,-7.25) 42(-14.6,-7.75) 43(-14.6,-8.25) 44(-14.6,-8.75) 45(-14.6,-9.25) 46(-14.6,-9.75) 47(-14.6,-10.25) 48(-14.6,-10.75) 49(-14.6,-11.25) 50(-14.6,-11.75) 51(-14.6,-12.25) 52(-14.6,-12.75) 105(14.6,-12.75) 106(14.6,-12.25) 107(14.6,-11.75) 108(14.6,-11.25) 109(14.6,-10.75) 110(14.6,-10.25) 111(14.6,-9.75) 112(14.6,-9.25) 113(14.6,-8.75) 114(14.6,-8.25) 115(14.6,-7.75) 116(14.6,-7.25) 117(14.6,-6.75) 118(14.6,-6.25) 119(14.6,-5.75) 120(14.6,-5.25) 121(14.6,-4.75) 122(14.6,-4.25) 123(14.6,-3.75) 124(14.6,-3.25) 125(14.6,-2.75) 126(14.6,-2.25) 127(14.6,-1.75) 128(14.6,-1.25) 129(14.6,-0.75) 130(14.6,-0.25) 131(14.6,0.25) 132(14.6,0.75) 133(14.6,1.25) 134(14.6,1.75) 135(14.6,2.25) 136(14.6,2.75) 137(14.6,3.25) 138(14.6,3.75) 139(14.6,4.25) 140(14.6,4.75) 141(14.6,5.25) 142(14.6,5.75) 143(14.6,6.25) 144(14.6,6.75) 145(14.6,7.25) 146(14.6,7.75) 147(14.6,8.25) 148(14.6,8.75) 149(14.6,9.25) 150(14.6,9.75) 151(14.6,10.25) 152(14.6,10.75) 153(14.6,11.25) 154(14.6,11.75) 155(14.6,12.25) 156(14.6,12.75)
  rect 0.3x1.6 smd: 53(-12.75,-14.6) 54(-12.25,-14.6) 55(-11.75,-14.6) 56(-11.25,-14.6) 57(-10.75,-14.6) 58(-10.25,-14.6) 59(-9.75,-14.6) 60(-9.25,-14.6) 61(-8.75,-14.6) 62(-8.25,-14.6) 63(-7.75,-14.6) 64(-7.25,-14.6) 65(-6.75,-14.6) 66(-6.25,-14.6) 67(-5.75,-14.6) 68(-5.25,-14.6) 69(-4.75,-14.6) 70(-4.25,-14.6) 71(-3.75,-14.6) 72(-3.25,-14.6) 73(-2.75,-14.6) 74(-2.25,-14.6) 75(-1.75,-14.6) 76(-1.25,-14.6) 77(-0.75,-14.6) 78(-0.25,-14.6) 79(0.25,-14.6) 80(0.75,-14.6) 81(1.25,-14.6) 82(1.75,-14.6) 83(2.25,-14.6) 84(2.75,-14.6) 85(3.25,-14.6) 86(3.75,-14.6) 87(4.25,-14.6) 88(4.75,-14.6) 89(5.25,-14.6) 90(5.75,-14.6) 91(6.25,-14.6) 92(6.75,-14.6) 93(7.25,-14.6) 94(7.75,-14.6) 95(8.25,-14.6) 96(8.75,-14.6) 97(9.25,-14.6) 98(9.75,-14.6) 99(10.25,-14.6) 100(10.75,-14.6) 101(11.25,-14.6) 102(11.75,-14.6) 103(12.25,-14.6) 104(12.75,-14.6) 157(12.75,14.6) 158(12.25,14.6) 159(11.75,14.6) 160(11.25,14.6) 161(10.75,14.6) 162(10.25,14.6) 163(9.75,14.6) 164(9.25,14.6) 165(8.75,14.6) 166(8.25,14.6) 167(7.75,14.6) 168(7.25,14.6) 169(6.75,14.6) 170(6.25,14.6) 171(5.75,14.6) 172(5.25,14.6) 173(4.75,14.6) 174(4.25,14.6) 175(3.75,14.6) 176(3.25,14.6) 177(2.75,14.6) 178(2.25,14.6) 179(1.75,14.6) 180(1.25,14.6) 181(0.75,14.6) 182(0.25,14.6) 183(-0.25,14.6) 184(-0.75,14.6) 185(-1.25,14.6) 186(-1.75,14.6) 187(-2.25,14.6) 188(-2.75,14.6) 189(-3.25,14.6) 190(-3.75,14.6) 191(-4.25,14.6) 192(-4.75,14.6) 193(-5.25,14.6) 194(-5.75,14.6) 195(-6.25,14.6) 196(-6.75,14.6) 197(-7.25,14.6) 198(-7.75,14.6) 199(-8.25,14.6) 200(-8.75,14.6) 201(-9.25,14.6) 202(-9.75,14.6) 203(-10.25,14.6) 204(-10.75,14.6) 205(-11.25,14.6) 206(-11.75,14.6) 207(-12.25,14.6) 208(-12.75,14.6)
Top Overlay:
  circle w0.25: c-14.6,13.45 r0.125
  lines w0.2: -13.4,-13.4 13.4,-13.4 13.4,13.4 -13.4,13.4 -13.4,-13.4

## F-QFP28x28-G208/P.5N [mm] "QFP; 208 Leads; Body 28 x 28 mm; Pitch 0.5 mm"
height 3.95
pads (208):
  rect 1.55x0.3 smd: 1(-14.9,12.75) 2(-14.9,12.25) 3(-14.9,11.75) 4(-14.9,11.25) 5(-14.9,10.75) 6(-14.9,10.25) 7(-14.9,9.75) 8(-14.9,9.25) 9(-14.9,8.75) 10(-14.9,8.25) 11(-14.9,7.75) 12(-14.9,7.25) 13(-14.9,6.75) 14(-14.9,6.25) 15(-14.9,5.75) 16(-14.9,5.25) 17(-14.9,4.75) 18(-14.9,4.25) 19(-14.9,3.75) 20(-14.9,3.25) 21(-14.9,2.75) 22(-14.9,2.25) 23(-14.9,1.75) 24(-14.9,1.25) 25(-14.9,0.75) 26(-14.9,0.25) 27(-14.9,-0.25) 28(-14.9,-0.75) 29(-14.9,-1.25) 30(-14.9,-1.75) 31(-14.9,-2.25) 32(-14.9,-2.75) 33(-14.9,-3.25) 34(-14.9,-3.75) 35(-14.9,-4.25) 36(-14.9,-4.75) 37(-14.9,-5.25) 38(-14.9,-5.75) 39(-14.9,-6.25) 40(-14.9,-6.75) 41(-14.9,-7.25) 42(-14.9,-7.75) 43(-14.9,-8.25) 44(-14.9,-8.75) 45(-14.9,-9.25) 46(-14.9,-9.75) 47(-14.9,-10.25) 48(-14.9,-10.75) 49(-14.9,-11.25) 50(-14.9,-11.75) 51(-14.9,-12.25) 52(-14.9,-12.75) 105(14.9,-12.75) 106(14.9,-12.25) 107(14.9,-11.75) 108(14.9,-11.25) 109(14.9,-10.75) 110(14.9,-10.25) 111(14.9,-9.75) 112(14.9,-9.25) 113(14.9,-8.75) 114(14.9,-8.25) 115(14.9,-7.75) 116(14.9,-7.25) 117(14.9,-6.75) 118(14.9,-6.25) 119(14.9,-5.75) 120(14.9,-5.25) 121(14.9,-4.75) 122(14.9,-4.25) 123(14.9,-3.75) 124(14.9,-3.25) 125(14.9,-2.75) 126(14.9,-2.25) 127(14.9,-1.75) 128(14.9,-1.25) 129(14.9,-0.75) 130(14.9,-0.25) 131(14.9,0.25) 132(14.9,0.75) 133(14.9,1.25) 134(14.9,1.75) 135(14.9,2.25) 136(14.9,2.75) 137(14.9,3.25) 138(14.9,3.75) 139(14.9,4.25) 140(14.9,4.75) 141(14.9,5.25) 142(14.9,5.75) 143(14.9,6.25) 144(14.9,6.75) 145(14.9,7.25) 146(14.9,7.75) 147(14.9,8.25) 148(14.9,8.75) 149(14.9,9.25) 150(14.9,9.75) 151(14.9,10.25) 152(14.9,10.75) 153(14.9,11.25) 154(14.9,11.75) 155(14.9,12.25) 156(14.9,12.75)
  rect 0.3x1.55 smd: 53(-12.75,-14.9) 54(-12.25,-14.9) 55(-11.75,-14.9) 56(-11.25,-14.9) 57(-10.75,-14.9) 58(-10.25,-14.9) 59(-9.75,-14.9) 60(-9.25,-14.9) 61(-8.75,-14.9) 62(-8.25,-14.9) 63(-7.75,-14.9) 64(-7.25,-14.9) 65(-6.75,-14.9) 66(-6.25,-14.9) 67(-5.75,-14.9) 68(-5.25,-14.9) 69(-4.75,-14.9) 70(-4.25,-14.9) 71(-3.75,-14.9) 72(-3.25,-14.9) 73(-2.75,-14.9) 74(-2.25,-14.9) 75(-1.75,-14.9) 76(-1.25,-14.9) 77(-0.75,-14.9) 78(-0.25,-14.9) 79(0.25,-14.9) 80(0.75,-14.9) 81(1.25,-14.9) 82(1.75,-14.9) 83(2.25,-14.9) 84(2.75,-14.9) 85(3.25,-14.9) 86(3.75,-14.9) 87(4.25,-14.9) 88(4.75,-14.9) 89(5.25,-14.9) 90(5.75,-14.9) 91(6.25,-14.9) 92(6.75,-14.9) 93(7.25,-14.9) 94(7.75,-14.9) 95(8.25,-14.9) 96(8.75,-14.9) 97(9.25,-14.9) 98(9.75,-14.9) 99(10.25,-14.9) 100(10.75,-14.9) 101(11.25,-14.9) 102(11.75,-14.9) 103(12.25,-14.9) 104(12.75,-14.9) 157(12.75,14.9) 158(12.25,14.9) 159(11.75,14.9) 160(11.25,14.9) 161(10.75,14.9) 162(10.25,14.9) 163(9.75,14.9) 164(9.25,14.9) 165(8.75,14.9) 166(8.25,14.9) 167(7.75,14.9) 168(7.25,14.9) 169(6.75,14.9) 170(6.25,14.9) 171(5.75,14.9) 172(5.25,14.9) 173(4.75,14.9) 174(4.25,14.9) 175(3.75,14.9) 176(3.25,14.9) 177(2.75,14.9) 178(2.25,14.9) 179(1.75,14.9) 180(1.25,14.9) 181(0.75,14.9) 182(0.25,14.9) 183(-0.25,14.9) 184(-0.75,14.9) 185(-1.25,14.9) 186(-1.75,14.9) 187(-2.25,14.9) 188(-2.75,14.9) 189(-3.25,14.9) 190(-3.75,14.9) 191(-4.25,14.9) 192(-4.75,14.9) 193(-5.25,14.9) 194(-5.75,14.9) 195(-6.25,14.9) 196(-6.75,14.9) 197(-7.25,14.9) 198(-7.75,14.9) 199(-8.25,14.9) 200(-8.75,14.9) 201(-9.25,14.9) 202(-9.75,14.9) 203(-10.25,14.9) 204(-10.75,14.9) 205(-11.25,14.9) 206(-11.75,14.9) 207(-12.25,14.9) 208(-12.75,14.9)
Top Overlay:
  circle w0.25: c-14.9,13.45 r0.125
  lines w0.2: -13.725,-13.725 -13.725,13.725 13.725,13.725 13.725,-13.725 -13.725,-13.725

## F-QFP28x28-G208/Y1.6N [mm] "208-Pin Plastic Quad Flat Pack (PQFP)"
height 4.1
pads (208):
  rect 1.6x0.3 smd: 1(-14.925,12.75) 2(-14.925,12.25) 3(-14.925,11.75) 4(-14.925,11.25) 5(-14.925,10.75) 6(-14.925,10.25) 7(-14.925,9.75) 8(-14.925,9.25) 9(-14.925,8.75) 10(-14.925,8.25) 11(-14.925,7.75) 12(-14.925,7.25) 13(-14.925,6.75) 14(-14.925,6.25) 15(-14.925,5.75) 16(-14.925,5.25) 17(-14.925,4.75) 18(-14.925,4.25) 19(-14.925,3.75) 20(-14.925,3.25) 21(-14.925,2.75) 22(-14.925,2.25) 23(-14.925,1.75) 24(-14.925,1.25) 25(-14.925,0.75) 26(-14.925,0.25) 27(-14.925,-0.25) 28(-14.925,-0.75) 29(-14.925,-1.25) 30(-14.925,-1.75) 31(-14.925,-2.25) 32(-14.925,-2.75) 33(-14.925,-3.25) 34(-14.925,-3.75) 35(-14.925,-4.25) 36(-14.925,-4.75) 37(-14.925,-5.25) 38(-14.925,-5.75) 39(-14.925,-6.25) 40(-14.925,-6.75) 41(-14.925,-7.25) 42(-14.925,-7.75) 43(-14.925,-8.25) 44(-14.925,-8.75) 45(-14.925,-9.25) 46(-14.925,-9.75) 47(-14.925,-10.25) 48(-14.925,-10.75) 49(-14.925,-11.25) 50(-14.925,-11.75) 51(-14.925,-12.25) 52(-14.925,-12.75) 105(14.925,-12.75) 106(14.925,-12.25) 107(14.925,-11.75) 108(14.925,-11.25) 109(14.925,-10.75) 110(14.925,-10.25) 111(14.925,-9.75) 112(14.925,-9.25) 113(14.925,-8.75) 114(14.925,-8.25) 115(14.925,-7.75) 116(14.925,-7.25) 117(14.925,-6.75) 118(14.925,-6.25) 119(14.925,-5.75) 120(14.925,-5.25) 121(14.925,-4.75) 122(14.925,-4.25) 123(14.925,-3.75) 124(14.925,-3.25) 125(14.925,-2.75) 126(14.925,-2.25) 127(14.925,-1.75) 128(14.925,-1.25) 129(14.925,-0.75) 130(14.925,-0.25) 131(14.925,0.25) 132(14.925,0.75) 133(14.925,1.25) 134(14.925,1.75) 135(14.925,2.25) 136(14.925,2.75) 137(14.925,3.25) 138(14.925,3.75) 139(14.925,4.25) 140(14.925,4.75) 141(14.925,5.25) 142(14.925,5.75) 143(14.925,6.25) 144(14.925,6.75) 145(14.925,7.25) 146(14.925,7.75) 147(14.925,8.25) 148(14.925,8.75) 149(14.925,9.25) 150(14.925,9.75) 151(14.925,10.25) 152(14.925,10.75) 153(14.925,11.25) 154(14.925,11.75) 155(14.925,12.25) 156(14.925,12.75)
  rect 0.3x1.6 smd: 53(-12.75,-14.925) 54(-12.25,-14.925) 55(-11.75,-14.925) 56(-11.25,-14.925) 57(-10.75,-14.925) 58(-10.25,-14.925) 59(-9.75,-14.925) 60(-9.25,-14.925) 61(-8.75,-14.925) 62(-8.25,-14.925) 63(-7.75,-14.925) 64(-7.25,-14.925) 65(-6.75,-14.925) 66(-6.25,-14.925) 67(-5.75,-14.925) 68(-5.25,-14.925) 69(-4.75,-14.925) 70(-4.25,-14.925) 71(-3.75,-14.925) 72(-3.25,-14.925) 73(-2.75,-14.925) 74(-2.25,-14.925) 75(-1.75,-14.925) 76(-1.25,-14.925) 77(-0.75,-14.925) 78(-0.25,-14.925) 79(0.25,-14.925) 80(0.75,-14.925) 81(1.25,-14.925) 82(1.75,-14.925) 83(2.25,-14.925) 84(2.75,-14.925) 85(3.25,-14.925) 86(3.75,-14.925) 87(4.25,-14.925) 88(4.75,-14.925) 89(5.25,-14.925) 90(5.75,-14.925) 91(6.25,-14.925) 92(6.75,-14.925) 93(7.25,-14.925) 94(7.75,-14.925) 95(8.25,-14.925) 96(8.75,-14.925) 97(9.25,-14.925) 98(9.75,-14.925) 99(10.25,-14.925) 100(10.75,-14.925) 101(11.25,-14.925) 102(11.75,-14.925) 103(12.25,-14.925) 104(12.75,-14.925) 157(12.75,14.925) 158(12.25,14.925) 159(11.75,14.925) 160(11.25,14.925) 161(10.75,14.925) 162(10.25,14.925) 163(9.75,14.925) 164(9.25,14.925) 165(8.75,14.925) 166(8.25,14.925) 167(7.75,14.925) 168(7.25,14.925) 169(6.75,14.925) 170(6.25,14.925) 171(5.75,14.925) 172(5.25,14.925) 173(4.75,14.925) 174(4.25,14.925) 175(3.75,14.925) 176(3.25,14.925) 177(2.75,14.925) 178(2.25,14.925) 179(1.75,14.925) 180(1.25,14.925) 181(0.75,14.925) 182(0.25,14.925) 183(-0.25,14.925) 184(-0.75,14.925) 185(-1.25,14.925) 186(-1.75,14.925) 187(-2.25,14.925) 188(-2.75,14.925) 189(-3.25,14.925) 190(-3.75,14.925) 191(-4.25,14.925) 192(-4.75,14.925) 193(-5.25,14.925) 194(-5.75,14.925) 195(-6.25,14.925) 196(-6.75,14.925) 197(-7.25,14.925) 198(-7.75,14.925) 199(-8.25,14.925) 200(-8.75,14.925) 201(-9.25,14.925) 202(-9.75,14.925) 203(-10.25,14.925) 204(-10.75,14.925) 205(-11.25,14.925) 206(-11.75,14.925) 207(-12.25,14.925) 208(-12.75,14.925)
Top Overlay:
  circle w0.25: c-14.925,13.45 r0.125
  lines w0.2: -13.725,-13.725 13.725,-13.725 13.725,13.725 -13.725,13.725 -13.725,-13.725

## F-QFP28x28-G208/Y1.8N [mm] "QFP; 208 Leads; Body 28 x 28 mm; Pitch 0.5 mm"
height 4.1
pads (208):
  rect 1.8x0.3 smd: 1(-15.13,12.75) 2(-15.13,12.25) 3(-15.13,11.75) 4(-15.13,11.25) 5(-15.13,10.75) 6(-15.13,10.25) 7(-15.13,9.75) 8(-15.13,9.25) 9(-15.13,8.75) 10(-15.13,8.25) 11(-15.13,7.75) 12(-15.13,7.25) 13(-15.13,6.75) 14(-15.13,6.25) 15(-15.13,5.75) 16(-15.13,5.25) 17(-15.13,4.75) 18(-15.13,4.25) 19(-15.13,3.75) 20(-15.13,3.25) 21(-15.13,2.75) 22(-15.13,2.25) 23(-15.13,1.75) 24(-15.13,1.25) 25(-15.13,0.75) 26(-15.13,0.25) 27(-15.13,-0.25) 28(-15.13,-0.75) 29(-15.13,-1.25) 30(-15.13,-1.75) 31(-15.13,-2.25) 32(-15.13,-2.75) 33(-15.13,-3.25) 34(-15.13,-3.75) 35(-15.13,-4.25) 36(-15.13,-4.75) 37(-15.13,-5.25) 38(-15.13,-5.75) 39(-15.13,-6.25) 40(-15.13,-6.75) 41(-15.13,-7.25) 42(-15.13,-7.75) 43(-15.13,-8.25) 44(-15.13,-8.75) 45(-15.13,-9.25) 46(-15.13,-9.75) 47(-15.13,-10.25) 48(-15.13,-10.75) 49(-15.13,-11.25) 50(-15.13,-11.75) 51(-15.13,-12.25) 52(-15.13,-12.75) 105(15.13,-12.75) 106(15.13,-12.25) 107(15.13,-11.75) 108(15.13,-11.25) 109(15.13,-10.75) 110(15.13,-10.25) 111(15.13,-9.75) 112(15.13,-9.25) 113(15.13,-8.75) 114(15.13,-8.25) 115(15.13,-7.75) 116(15.13,-7.25) 117(15.13,-6.75) 118(15.13,-6.25) 119(15.13,-5.75) 120(15.13,-5.25) 121(15.13,-4.75) 122(15.13,-4.25) 123(15.13,-3.75) 124(15.13,-3.25) 125(15.13,-2.75) 126(15.13,-2.25) 127(15.13,-1.75) 128(15.13,-1.25) 129(15.13,-0.75) 130(15.13,-0.25) 131(15.13,0.25) 132(15.13,0.75) 133(15.13,1.25) 134(15.13,1.75) 135(15.13,2.25) 136(15.13,2.75) 137(15.13,3.25) 138(15.13,3.75) 139(15.13,4.25) 140(15.13,4.75) 141(15.13,5.25) 142(15.13,5.75) 143(15.13,6.25) 144(15.13,6.75) 145(15.13,7.25) 146(15.13,7.75) 147(15.13,8.25) 148(15.13,8.75) 149(15.13,9.25) 150(15.13,9.75) 151(15.13,10.25) 152(15.13,10.75) 153(15.13,11.25) 154(15.13,11.75) 155(15.13,12.25) 156(15.13,12.75)
  rect 0.3x1.8 smd: 53(-12.75,-15.13) 54(-12.25,-15.13) 55(-11.75,-15.13) 56(-11.25,-15.13) 57(-10.75,-15.13) 58(-10.25,-15.13) 59(-9.75,-15.13) 60(-9.25,-15.13) 61(-8.75,-15.13) 62(-8.25,-15.13) 63(-7.75,-15.13) 64(-7.25,-15.13) 65(-6.75,-15.13) 66(-6.25,-15.13) 67(-5.75,-15.13) 68(-5.25,-15.13) 69(-4.75,-15.13) 70(-4.25,-15.13) 71(-3.75,-15.13) 72(-3.25,-15.13) 73(-2.75,-15.13) 74(-2.25,-15.13) 75(-1.75,-15.13) 76(-1.25,-15.13) 77(-0.75,-15.13) 78(-0.25,-15.13) 79(0.25,-15.13) 80(0.75,-15.13) 81(1.25,-15.13) 82(1.75,-15.13) 83(2.25,-15.13) 84(2.75,-15.13) 85(3.25,-15.13) 86(3.75,-15.13) 87(4.25,-15.13) 88(4.75,-15.13) 89(5.25,-15.13) 90(5.75,-15.13) 91(6.25,-15.13) 92(6.75,-15.13) 93(7.25,-15.13) 94(7.75,-15.13) 95(8.25,-15.13) 96(8.75,-15.13) 97(9.25,-15.13) 98(9.75,-15.13) 99(10.25,-15.13) 100(10.75,-15.13) 101(11.25,-15.13) 102(11.75,-15.13) 103(12.25,-15.13) 104(12.75,-15.13) 157(12.75,15.13) 158(12.25,15.13) 159(11.75,15.13) 160(11.25,15.13) 161(10.75,15.13) 162(10.25,15.13) 163(9.75,15.13) 164(9.25,15.13) 165(8.75,15.13) 166(8.25,15.13) 167(7.75,15.13) 168(7.25,15.13) 169(6.75,15.13) 170(6.25,15.13) 171(5.75,15.13) 172(5.25,15.13) 173(4.75,15.13) 174(4.25,15.13) 175(3.75,15.13) 176(3.25,15.13) 177(2.75,15.13) 178(2.25,15.13) 179(1.75,15.13) 180(1.25,15.13) 181(0.75,15.13) 182(0.25,15.13) 183(-0.25,15.13) 184(-0.75,15.13) 185(-1.25,15.13) 186(-1.75,15.13) 187(-2.25,15.13) 188(-2.75,15.13) 189(-3.25,15.13) 190(-3.75,15.13) 191(-4.25,15.13) 192(-4.75,15.13) 193(-5.25,15.13) 194(-5.75,15.13) 195(-6.25,15.13) 196(-6.75,15.13) 197(-7.25,15.13) 198(-7.75,15.13) 199(-8.25,15.13) 200(-8.75,15.13) 201(-9.25,15.13) 202(-9.75,15.13) 203(-10.25,15.13) 204(-10.75,15.13) 205(-11.25,15.13) 206(-11.75,15.13) 207(-12.25,15.13) 208(-12.75,15.13)
Top Overlay:
  circle w0.25: c-15.13,13.45 r0.125
  lines w0.2: -13.825,-13.825 13.825,-13.825 13.825,13.825 -13.825,13.825 -13.825,-13.825

## F-QFP28x28-G208/Y1.35N [mm] "QFP; 208 Leads; Body 28 x 28 mm; Pitch 0.5 mm"
height 4.07
pads (208):
  rect 1.35x0.3 smd: 1(-14.975,12.75) 2(-14.975,12.25) 3(-14.975,11.75) 4(-14.975,11.25) 5(-14.975,10.75) 6(-14.975,10.25) 7(-14.975,9.75) 8(-14.975,9.25) 9(-14.975,8.75) 10(-14.975,8.25) 11(-14.975,7.75) 12(-14.975,7.25) 13(-14.975,6.75) 14(-14.975,6.25) 15(-14.975,5.75) 16(-14.975,5.25) 17(-14.975,4.75) 18(-14.975,4.25) 19(-14.975,3.75) 20(-14.975,3.25) 21(-14.975,2.75) 22(-14.975,2.25) 23(-14.975,1.75) 24(-14.975,1.25) 25(-14.975,0.75) 26(-14.975,0.25) 27(-14.975,-0.25) 28(-14.975,-0.75) 29(-14.975,-1.25) 30(-14.975,-1.75) 31(-14.975,-2.25) 32(-14.975,-2.75) 33(-14.975,-3.25) 34(-14.975,-3.75) 35(-14.975,-4.25) 36(-14.975,-4.75) 37(-14.975,-5.25) 38(-14.975,-5.75) 39(-14.975,-6.25) 40(-14.975,-6.75) 41(-14.975,-7.25) 42(-14.975,-7.75) 43(-14.975,-8.25) 44(-14.975,-8.75) 45(-14.975,-9.25) 46(-14.975,-9.75) 47(-14.975,-10.25) 48(-14.975,-10.75) 49(-14.975,-11.25) 50(-14.975,-11.75) 51(-14.975,-12.25) 52(-14.975,-12.75) 105(14.975,-12.75) 106(14.975,-12.25) 107(14.975,-11.75) 108(14.975,-11.25) 109(14.975,-10.75) 110(14.975,-10.25) 111(14.975,-9.75) 112(14.975,-9.25) 113(14.975,-8.75) 114(14.975,-8.25) 115(14.975,-7.75) 116(14.975,-7.25) 117(14.975,-6.75) 118(14.975,-6.25) 119(14.975,-5.75) 120(14.975,-5.25) 121(14.975,-4.75) 122(14.975,-4.25) 123(14.975,-3.75) 124(14.975,-3.25) 125(14.975,-2.75) 126(14.975,-2.25) 127(14.975,-1.75) 128(14.975,-1.25) 129(14.975,-0.75) 130(14.975,-0.25) 131(14.975,0.25) 132(14.975,0.75) 133(14.975,1.25) 134(14.975,1.75) 135(14.975,2.25) 136(14.975,2.75) 137(14.975,3.25) 138(14.975,3.75) 139(14.975,4.25) 140(14.975,4.75) 141(14.975,5.25) 142(14.975,5.75) 143(14.975,6.25) 144(14.975,6.75) 145(14.975,7.25) 146(14.975,7.75) 147(14.975,8.25) 148(14.975,8.75) 149(14.975,9.25) 150(14.975,9.75) 151(14.975,10.25) 152(14.975,10.75) 153(14.975,11.25) 154(14.975,11.75) 155(14.975,12.25) 156(14.975,12.75)
  rect 0.3x1.35 smd: 53(-12.75,-14.975) 54(-12.25,-14.975) 55(-11.75,-14.975) 56(-11.25,-14.975) 57(-10.75,-14.975) 58(-10.25,-14.975) 59(-9.75,-14.975) 60(-9.25,-14.975) 61(-8.75,-14.975) 62(-8.25,-14.975) 63(-7.75,-14.975) 64(-7.25,-14.975) 65(-6.75,-14.975) 66(-6.25,-14.975) 67(-5.75,-14.975) 68(-5.25,-14.975) 69(-4.75,-14.975) 70(-4.25,-14.975) 71(-3.75,-14.975) 72(-3.25,-14.975) 73(-2.75,-14.975) 74(-2.25,-14.975) 75(-1.75,-14.975) 76(-1.25,-14.975) 77(-0.75,-14.975) 78(-0.25,-14.975) 79(0.25,-14.975) 80(0.75,-14.975) 81(1.25,-14.975) 82(1.75,-14.975) 83(2.25,-14.975) 84(2.75,-14.975) 85(3.25,-14.975) 86(3.75,-14.975) 87(4.25,-14.975) 88(4.75,-14.975) 89(5.25,-14.975) 90(5.75,-14.975) 91(6.25,-14.975) 92(6.75,-14.975) 93(7.25,-14.975) 94(7.75,-14.975) 95(8.25,-14.975) 96(8.75,-14.975) 97(9.25,-14.975) 98(9.75,-14.975) 99(10.25,-14.975) 100(10.75,-14.975) 101(11.25,-14.975) 102(11.75,-14.975) 103(12.25,-14.975) 104(12.75,-14.975) 157(12.75,14.975) 158(12.25,14.975) 159(11.75,14.975) 160(11.25,14.975) 161(10.75,14.975) 162(10.25,14.975) 163(9.75,14.975) 164(9.25,14.975) 165(8.75,14.975) 166(8.25,14.975) 167(7.75,14.975) 168(7.25,14.975) 169(6.75,14.975) 170(6.25,14.975) 171(5.75,14.975) 172(5.25,14.975) 173(4.75,14.975) 174(4.25,14.975) 175(3.75,14.975) 176(3.25,14.975) 177(2.75,14.975) 178(2.25,14.975) 179(1.75,14.975) 180(1.25,14.975) 181(0.75,14.975) 182(0.25,14.975) 183(-0.25,14.975) 184(-0.75,14.975) 185(-1.25,14.975) 186(-1.75,14.975) 187(-2.25,14.975) 188(-2.75,14.975) 189(-3.25,14.975) 190(-3.75,14.975) 191(-4.25,14.975) 192(-4.75,14.975) 193(-5.25,14.975) 194(-5.75,14.975) 195(-6.25,14.975) 196(-6.75,14.975) 197(-7.25,14.975) 198(-7.75,14.975) 199(-8.25,14.975) 200(-8.75,14.975) 201(-9.25,14.975) 202(-9.75,14.975) 203(-10.25,14.975) 204(-10.75,14.975) 205(-11.25,14.975) 206(-11.75,14.975) 207(-12.25,14.975) 208(-12.75,14.975)
Top Overlay:
  circle w0.25: c-14.975,13.45 r0.125
  lines w0.2: -13.9,-13.9 13.9,-13.9 13.9,13.9 -13.9,13.9 -13.9,-13.9

## F-QFP28x28-G208/Y1.55N [mm] "208-Pin Power Quad Flat Pack (RQFP)"
height 4.1
pads (208):
  rect 1.55x0.3 smd: 1(-14.975,12.75) 2(-14.975,12.25) 3(-14.975,11.75) 4(-14.975,11.25) 5(-14.975,10.75) 6(-14.975,10.25) 7(-14.975,9.75) 8(-14.975,9.25) 9(-14.975,8.75) 10(-14.975,8.25) 11(-14.975,7.75) 12(-14.975,7.25) 13(-14.975,6.75) 14(-14.975,6.25) 15(-14.975,5.75) 16(-14.975,5.25) 17(-14.975,4.75) 18(-14.975,4.25) 19(-14.975,3.75) 20(-14.975,3.25) 21(-14.975,2.75) 22(-14.975,2.25) 23(-14.975,1.75) 24(-14.975,1.25) 25(-14.975,0.75) 26(-14.975,0.25) 27(-14.975,-0.25) 28(-14.975,-0.75) 29(-14.975,-1.25) 30(-14.975,-1.75) 31(-14.975,-2.25) 32(-14.975,-2.75) 33(-14.975,-3.25) 34(-14.975,-3.75) 35(-14.975,-4.25) 36(-14.975,-4.75) 37(-14.975,-5.25) 38(-14.975,-5.75) 39(-14.975,-6.25) 40(-14.975,-6.75) 41(-14.975,-7.25) 42(-14.975,-7.75) 43(-14.975,-8.25) 44(-14.975,-8.75) 45(-14.975,-9.25) 46(-14.975,-9.75) 47(-14.975,-10.25) 48(-14.975,-10.75) 49(-14.975,-11.25) 50(-14.975,-11.75) 51(-14.975,-12.25) 52(-14.975,-12.75) 105(14.975,-12.75) 106(14.975,-12.25) 107(14.975,-11.75) 108(14.975,-11.25) 109(14.975,-10.75) 110(14.975,-10.25) 111(14.975,-9.75) 112(14.975,-9.25) 113(14.975,-8.75) 114(14.975,-8.25) 115(14.975,-7.75) 116(14.975,-7.25) 117(14.975,-6.75) 118(14.975,-6.25) 119(14.975,-5.75) 120(14.975,-5.25) 121(14.975,-4.75) 122(14.975,-4.25) 123(14.975,-3.75) 124(14.975,-3.25) 125(14.975,-2.75) 126(14.975,-2.25) 127(14.975,-1.75) 128(14.975,-1.25) 129(14.975,-0.75) 130(14.975,-0.25) 131(14.975,0.25) 132(14.975,0.75) 133(14.975,1.25) 134(14.975,1.75) 135(14.975,2.25) 136(14.975,2.75) 137(14.975,3.25) 138(14.975,3.75) 139(14.975,4.25) 140(14.975,4.75) 141(14.975,5.25) 142(14.975,5.75) 143(14.975,6.25) 144(14.975,6.75) 145(14.975,7.25) 146(14.975,7.75) 147(14.975,8.25) 148(14.975,8.75) 149(14.975,9.25) 150(14.975,9.75) 151(14.975,10.25) 152(14.975,10.75) 153(14.975,11.25) 154(14.975,11.75) 155(14.975,12.25) 156(14.975,12.75)
  rect 0.3x1.55 smd: 53(-12.75,-14.975) 54(-12.25,-14.975) 55(-11.75,-14.975) 56(-11.25,-14.975) 57(-10.75,-14.975) 58(-10.25,-14.975) 59(-9.75,-14.975) 60(-9.25,-14.975) 61(-8.75,-14.975) 62(-8.25,-14.975) 63(-7.75,-14.975) 64(-7.25,-14.975) 65(-6.75,-14.975) 66(-6.25,-14.975) 67(-5.75,-14.975) 68(-5.25,-14.975) 69(-4.75,-14.975) 70(-4.25,-14.975) 71(-3.75,-14.975) 72(-3.25,-14.975) 73(-2.75,-14.975) 74(-2.25,-14.975) 75(-1.75,-14.975) 76(-1.25,-14.975) 77(-0.75,-14.975) 78(-0.25,-14.975) 79(0.25,-14.975) 80(0.75,-14.975) 81(1.25,-14.975) 82(1.75,-14.975) 83(2.25,-14.975) 84(2.75,-14.975) 85(3.25,-14.975) 86(3.75,-14.975) 87(4.25,-14.975) 88(4.75,-14.975) 89(5.25,-14.975) 90(5.75,-14.975) 91(6.25,-14.975) 92(6.75,-14.975) 93(7.25,-14.975) 94(7.75,-14.975) 95(8.25,-14.975) 96(8.75,-14.975) 97(9.25,-14.975) 98(9.75,-14.975) 99(10.25,-14.975) 100(10.75,-14.975) 101(11.25,-14.975) 102(11.75,-14.975) 103(12.25,-14.975) 104(12.75,-14.975) 157(12.75,14.975) 158(12.25,14.975) 159(11.75,14.975) 160(11.25,14.975) 161(10.75,14.975) 162(10.25,14.975) 163(9.75,14.975) 164(9.25,14.975) 165(8.75,14.975) 166(8.25,14.975) 167(7.75,14.975) 168(7.25,14.975) 169(6.75,14.975) 170(6.25,14.975) 171(5.75,14.975) 172(5.25,14.975) 173(4.75,14.975) 174(4.25,14.975) 175(3.75,14.975) 176(3.25,14.975) 177(2.75,14.975) 178(2.25,14.975) 179(1.75,14.975) 180(1.25,14.975) 181(0.75,14.975) 182(0.25,14.975) 183(-0.25,14.975) 184(-0.75,14.975) 185(-1.25,14.975) 186(-1.75,14.975) 187(-2.25,14.975) 188(-2.75,14.975) 189(-3.25,14.975) 190(-3.75,14.975) 191(-4.25,14.975) 192(-4.75,14.975) 193(-5.25,14.975) 194(-5.75,14.975) 195(-6.25,14.975) 196(-6.75,14.975) 197(-7.25,14.975) 198(-7.75,14.975) 199(-8.25,14.975) 200(-8.75,14.975) 201(-9.25,14.975) 202(-9.75,14.975) 203(-10.25,14.975) 204(-10.75,14.975) 205(-11.25,14.975) 206(-11.75,14.975) 207(-12.25,14.975) 208(-12.75,14.975)
Top Overlay:
  circle w0.25: c-14.975,13.45 r0.125
  lines w0.2: -13.8,-13.8 -13.8,13.8 13.8,13.8 13.8,-13.8 -13.8,-13.8